# Altium footprint library RJ-45_LED.PcbLib: 1 footprints
Each footprint in its own frame and in the unit in brackets; x right, y up, seen from the top. Pads: shape width x height; smd on the part's side, far side on the other; paste and mask are expansions set on the pad; w line width, h text height; cw(c..) or ccw(c..) is an arc to the next point about the centre after c.
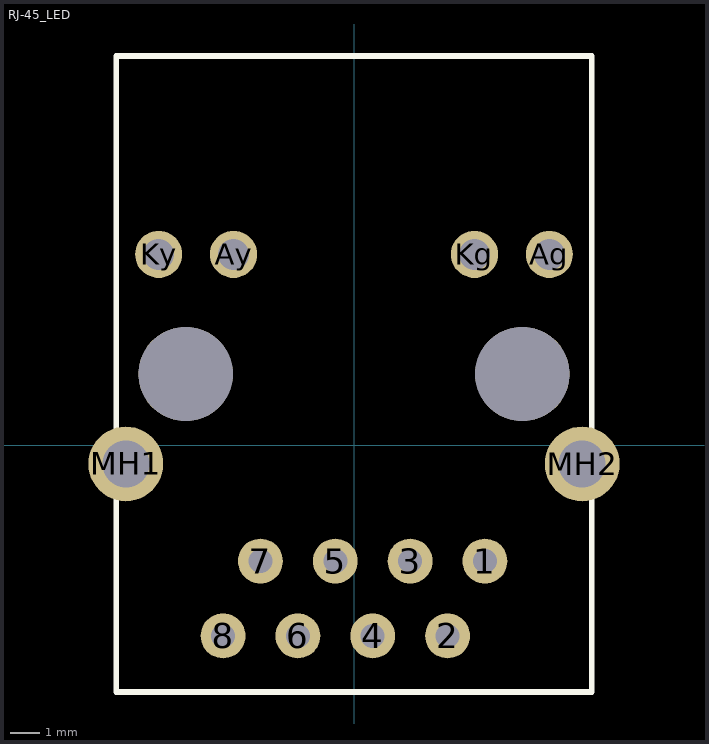
[diagram p0: the footprint, top view; thin cyan lines are the x and y axes]

## RJ-45_LED [mm] "RJ-45 Cat5, 90° with green and yellow LED"
height 13.5
pads (16):
  round 1.524 hole 0.813: 1(4.445,-3.935) 2(3.175,-6.475) 3(1.905,-3.935) 4(0.635,-6.475) 5(-0.635,-3.935) 6(-1.905,-6.475) 7(-3.175,-3.935) 8(-4.445,-6.475)
  round 1.6 hole 1.05: Ag(6.63,6.475) Ay(-4.09,6.475) Kg(4.09,6.475) Ky(-6.63,6.475)
  round 2.54 hole 1.6: MH1(-7.745,-0.635) MH2(7.745,-0.635)
  round 3.2 hole 3.2 unplated: ""(-5.715,2.415) ""(5.715,2.415)
Top Overlay:
  lines w0.203: -8.07,-8.385 -8.07,13.215 8.07,13.215 8.07,-8.385 -8.07,-8.385
3D body: height 14.72, standoff -3.94, extent -7.932,-8.385 8.07,12.951